# Altium footprint library opto.PcbLib: 5 footprints
Each footprint in its own frame and in the unit in brackets; x right, y up, seen from the top. Pads: shape width x height; smd on the part's side, far side on the other; paste and mask are expansions set on the pad; w line width, h text height; cw(c..) or ccw(c..) is an arc to the next point about the centre after c.
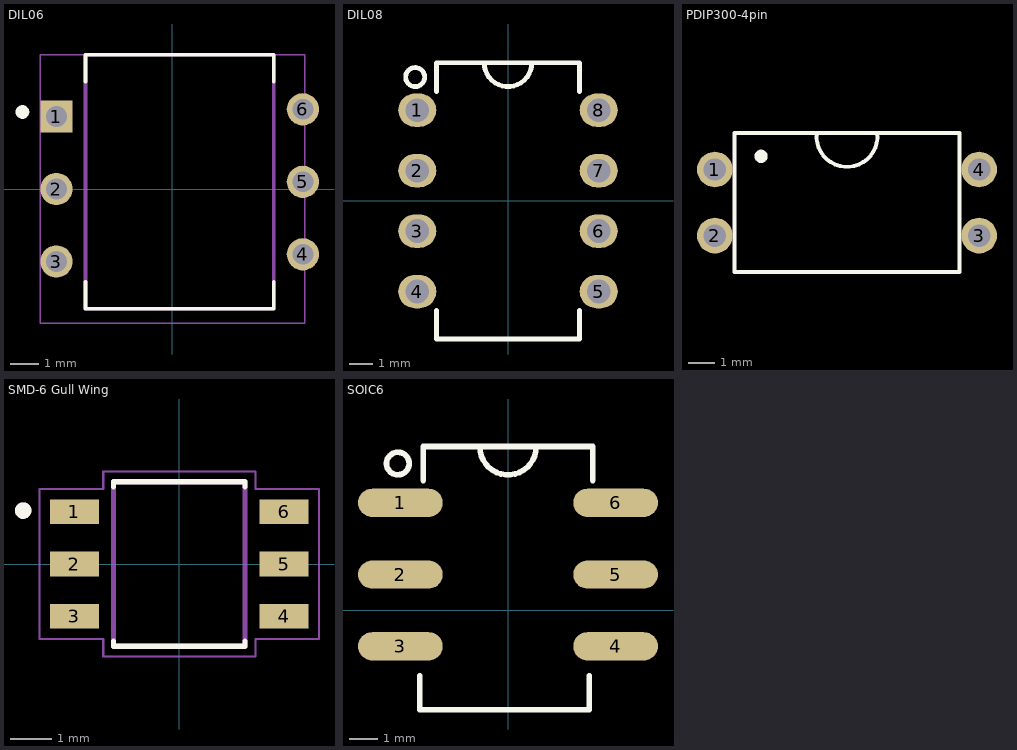
[diagram p0: the footprints below, top view; thin cyan lines are the x and y axes]

## DIL06 [mm]
pads (6):
  rect 1.13x1.13 hole 0.73: 1(-4.064,2.54)
  round 1.13 hole 0.73: 2(-4.064,0) 3(-4.064,-2.54) 4(4.572,-2.286) 5(4.572,0.254) 6(4.572,2.794)
Top Overlay:
  circle w0.24: c-5.254,2.7 r0.12
  lines w0.127: -3.046,-3.246 -3.046,-4.196 3.554,-4.196 3.554,-3.246 ; -3.046,3.754 -3.046,4.704 3.554,4.704 3.554,3.754
Mechanical 13:
  lines w0.127: -3.046,-4.196 3.554,-4.196 3.554,4.704 -3.046,4.704 -3.046,-4.196
Mechanical 15:
  lines w0.05: -4.63,-4.7 4.63,-4.7 4.63,4.7 -4.63,4.7 -4.63,-4.7
3D body "MOC3021--3DModel-STEP-56544.STEP": height 5.46, standoff -3.81, extent -4.523,-4.064 5.285,4.826

## DIL08 [mm] "DIP, pitch 2.54mm, 300mil Width"
pads (8):
  oval 1.6x1.4 / inner round 1.4 / far side oval 2.2x1.4 hole 1: 1(-3.81,3.81) 2(-3.81,1.27) 3(-3.81,-1.27) 4(-3.81,-3.81) 5(3.81,-3.81) 6(3.81,-1.27) 7(3.81,1.27) 8(3.81,3.81)
Top Overlay:
  circle w0.2: c-3.9,5.2 r0.4
  lines w0.2: -3,-4.6 -3,-5.8 3,-5.8 3,-4.6 ; -3,4.6 -3,5.8 3,5.8 3,4.6 ; -1,5.8 ccw(c0,5.8) 1,5.8
3D body "CircuitWorks-DIP8.step": height 4.19, standoff -2.67, extent -3.937,-5.7 3.937,5.73

## PDIP300-4pin [mil]
pads (4):
  round 54 hole 34 mask-1000: 1(10490,6070) 2(10490,5970) 3(10890,5970) 4(10890,6070)
Top Overlay:
  circle w10: c10560,6090 r5
  lines w6: 10644.28,6125.08 ccw(c10690,6120) 10735.72,6125.08 ; 10520,5915 10860,5915 10860,6125 10520,6125 10520,5915
Mechanical 1:
  lines w1: 10473,5953 10473,5987 ; 10473,6053 10473,6087 ; 10907,5953 10907,5987 ; 10907,6053 10907,6087
3D body "PC817XF_SHP.step": height 162.09, standoff -100, extent 10485,5920 10905,6120

## SMD-6 Gull Wing [mm]
pads (6):
  rect 1.2x0.6 smd paste-2 mask+0: 1(-2.55,1.27) 2(-2.55,0) 3(-2.55,-1.27) 4(2.55,-1.27) 5(2.55,0) 6(2.55,1.27)
Top Overlay:
  circle w0.2: c-3.8,1.3 r0.1
  lines w0.127: -1.6,-1.88 -1.6,-2 1.6,-2 1.6,-1.88 ; -1.6,1.88 -1.6,2 1.6,2 1.6,1.88
Top Paste:
  region: -2,-1.52 -3.1,-1.52 -3.1,-1.02 -2,-1.02
  region: -2,-0.25 -3.1,-0.25 -3.1,0.25 -2,0.25
  region: -2,1.02 -3.1,1.02 -3.1,1.52 -2,1.52
  region: 3.1,-1.52 2,-1.52 2,-1.02 3.1,-1.02
  region: 3.1,1.02 2,1.02 2,1.52 3.1,1.52
  region: 3.1,-0.25 2,-0.25 2,0.25 3.1,0.25
Top Solder:
  region: -1.95,-1.57 -3.15,-1.57 -3.15,-0.97 -1.95,-0.97
  region: 3.15,-0.3 1.95,-0.3 1.95,0.3 3.15,0.3
  region: -1.95,-0.3 -3.15,-0.3 -3.15,0.3 -1.95,0.3
  region: -1.95,0.97 -3.15,0.97 -3.15,1.57 -1.95,1.57
  region: 3.15,-1.57 1.95,-1.57 1.95,-0.97 3.15,-0.97
  region: 3.15,0.97 1.95,0.97 1.95,1.57 3.15,1.57
Mechanical 13:
  circle w0.2: c-3.8,1.3 r0.1
  lines w0.127: -1.6,-2 1.6,-2 1.6,2 -1.6,2 -1.6,-2
Mechanical 15:
  lines w0.05: -3.4,-1.82 -3.4,1.82 -1.85,1.82 -1.85,2.25 1.85,2.25 1.85,1.82 3.4,1.82 3.4,-1.82 1.85,-1.82 1.85,-2.25 -1.85,-2.25 -1.85,-1.82 -3.4,-1.82
3D body: height 1, standoff 0.1, extent -2.032,-1.778 2.032,1.778
3D body: height 0.2, standoff 0, extent 2.032,1.016 3.048,1.524
3D body: height 0.2, standoff 0, extent 2.032,-0.254 3.048,0.254
3D body: height 0.2, standoff 0, extent 2.032,-1.524 3.048,-1.016
3D body: height 0.2, standoff 0, extent -3.048,-1.524 -2.032,-1.016
3D body: height 0.2, standoff 0, extent -3.048,-0.254 -2.032,0.254
3D body: height 0.2, standoff 0, extent -3.048,1.016 -2.032,1.524

## SOIC6 [mm] "DIP, pitch 2.54mm, 300mil Width"
pads (6):
  oval 3x1 smd: 1(-3.81,3.81) 2(-3.81,1.27) 3(-3.81,-1.27) 4(3.81,-1.27) 5(3.81,1.27) 6(3.81,3.81)
Top Overlay:
  circle w0.2: c-3.9,5.2 r0.4
  lines w0.2: -3.127,-2.314 -3.127,-3.514 2.873,-3.514 2.873,-2.314 ; -3,4.6 -3,5.8 3,5.8 3,4.6 ; -1,5.8 ccw(c0,5.8) 1,5.8